# Altium footprint library SOT-23-8.PcbLib: 1 footprints
Each footprint in its own frame and in the unit in brackets; x right, y up, seen from the top. Pads: shape width x height; smd on the part's side, far side on the other; paste and mask are expansions set on the pad; w line width, h text height; cw(c..) or ccw(c..) is an arc to the next point about the centre after c.
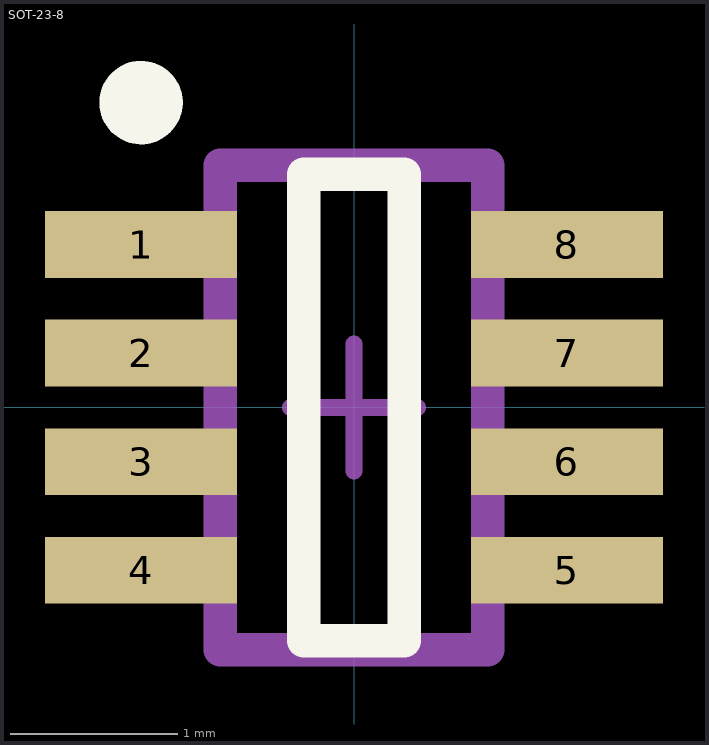
[diagram p0: the footprint, top view; thin cyan lines are the x and y axes]

## SOT-23-8 [mm] "SOT23, 8-Leads, Body 2,9x2,8mm (max), Pitch 0,65mm, IPC Medium Density"
height 1.45
pads (8):
  rect 1.15x0.4 smd: 1(-1.275,0.975) 2(-1.275,0.325) 3(-1.275,-0.325) 4(-1.275,-0.975) 5(1.275,-0.975) 6(1.275,-0.325) 7(1.275,0.325) 8(1.275,0.975)
Top Overlay:
  circle w0.25: c-1.275,1.825 r0.125
  lines w0.2: -0.3,-1.397 -0.3,1.397 0.3,1.397 0.3,-1.397 -0.3,-1.397
Top Solder:
  rectangle: 0.635,-1.27 1.905,1.27
  rectangle: -1.905,-1.27 -0.635,1.27
Mechanical 13:
  lines w0.2: -0.8,-1.45 0.8,-1.45 0.8,1.45 -0.8,1.45 -0.8,-1.45
  text ".Designator" at 0.508,-1.016 h1.5
Mechanical 15:
  lines w0.1: -0.381,0 0.381,0 ; 0,-0.381 0,0.381
3D body: height 1.45, standoff 0.05, extent -0.762,-1.397 0.762,1.397